# Altium footprint library Arduino_UNO.PcbLib: 1 footprints
Each footprint in its own frame and in the unit in brackets; x right, y up, seen from the top. Pads: shape width x height; smd on the part's side, far side on the other; paste and mask are expansions set on the pad; w line width, h text height; cw(c..) or ccw(c..) is an arc to the next point about the centre after c.
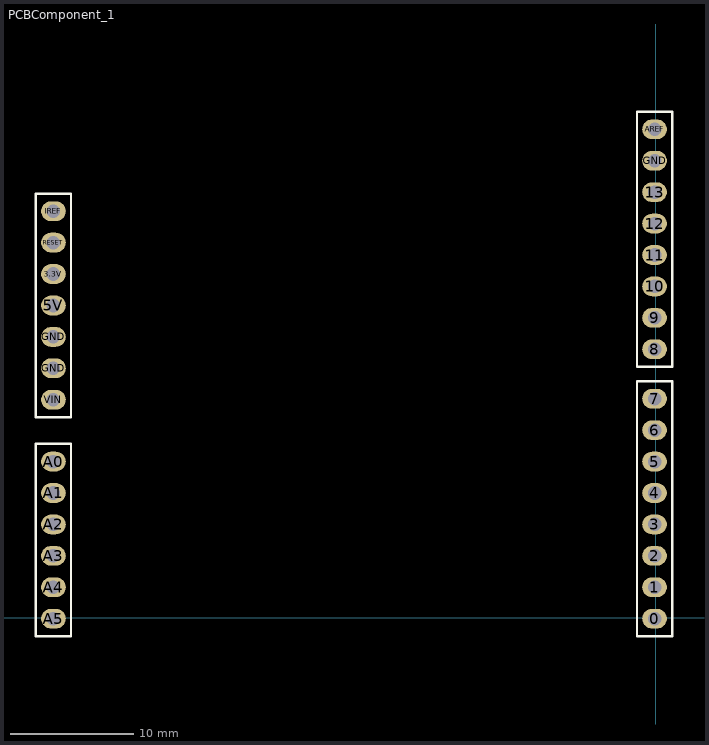
[diagram p0: the footprint, top view; thin cyan lines are the x and y axes]

## PCBComponent_1 [mm]
pads (29):
  oval 2x1.6 hole 1.1: 0(-0.102,-0.076) 1(-0.102,2.464) 2(-0.102,5.004) 3(-0.102,7.544) 3.3V(-48.702,27.784) 4(-0.102,10.084) 5(-0.102,12.624) 5V(-48.702,25.244) 6(-0.102,15.164) 7(-0.102,17.704) 8(-0.102,21.704) 9(-0.102,24.244) 10(-0.102,26.784) 11(-0.102,29.324) 12(-0.102,31.864) 13(-0.102,34.404) A0(-48.702,12.624) A1(-48.702,10.084) A2(-48.702,7.544) A3(-48.702,5.004) A4(-48.702,2.464) A5(-48.702,-0.076) AREF(-0.102,39.484) GND(-48.702,20.164) GND(-48.702,22.704) GND(-0.102,36.944) IREF(-48.702,32.864) RESET(-48.702,30.324) VIN(-48.702,17.624)
Top Overlay:
  lines w0.2: -50.124,-1.499 -50.124,14.046 -47.279,14.046 -47.279,-1.499 -50.124,-1.499 ; -50.124,16.201 -47.279,16.201 -47.279,34.286 -50.124,34.286 -50.124,16.201 ; -1.524,-1.499 1.321,-1.499 1.321,19.126 -1.524,19.126 -1.524,-1.499 ; -1.524,20.281 -1.524,40.906 1.321,40.906 1.321,20.281 -1.524,20.281
3D body "shield Uno pins.STEP": height 5.65, standoff -5.69, extent -49.946,-1.372 1.194,40.728